# Altium schematic symbol library CRCW08056K98FKEA.SchLib: 1 symbol
Pins are listed as number, name and electrical type; pins without a type are passive.

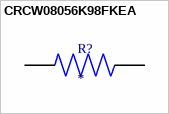
[diagram p0: symbol CRCW08056K98FKEA]

## CRCW08056K98FKEA
designator R?
Res Thick Film 0805 6.98K Ohm 1% 1/8W Â±100ppm/Â°C Molded SMD SMD Paper T/R; MP: CRCW08056K98FKEA; Package: None; Price: None; Value: *; Availability: Unavailable
footprint RESC2012X50N
pins: 1, 2